# Altium footprint library PcbLib1.PcbLib: 19 footprints (part 2 of 2)
Each footprint in its own frame and in the unit in brackets; x right, y up, seen from the top. Pads: shape width x height; smd on the part's side, far side on the other; paste and mask are expansions set on the pad; w line width, h text height; cw(c..) or ccw(c..) is an arc to the next point about the centre after c.
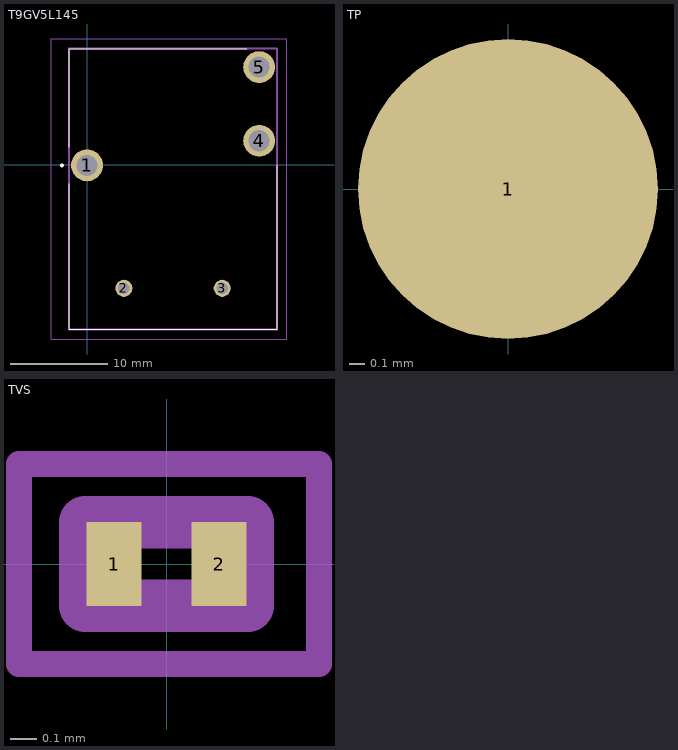
[diagram p1: the footprints below, top view; thin cyan lines are the x and y axes]

## T9GV5L145 [mm]
pads (5):
  round 3.29 hole 2.19: 1(0,-0.06) 4(17.78,2.48) 5(17.78,10.1)
  round 1.77 hole 1.17: 2(3.81,-12.76) 3(13.97,-12.76)
Top Overlay:
  lines w0.1: -1.86,-1.96 -1.86,-17 19.64,-17 19.64,-0.06 ; -1.86,1.84 -1.86,12 16.51,12
  lines w0.2: -2.6,-0.16 ccw(c-2.6,-0.06) -2.6,0.04 ccw(c-2.6,-0.06) -2.6,-0.16
Mechanical 13:
  lines w0.2: -1.86,-17 19.64,-17 19.64,12 -1.86,12 -1.86,-17
Mechanical 15:
  lines w0.1: -3.7,-18 20.64,-18 20.64,13 -3.7,13 -3.7,-18
3D body "c-1558661-3-b-3d.stp": height 15, standoff -3.95, extent -1.81,-17.145 19.59,11.755
3D body: height 2.54, standoff -2.54, extent 6.985,1.397 6.985,1.397

## TP [mm]
pads (1):
  round 2 smd paste-0.508: 1(0,0)

## TVS [mm]
pads (2):
  rect 0.21x0.32 smd: 1(-0.2,0) 2(0.2,0)
Mechanical 13:
  lines w0.2: -0.31,-0.16 0.31,-0.16 0.31,0.16 -0.31,0.16 -0.31,-0.16
Mechanical 15:
  lines w0.1: -0.562,-0.381 0.581,-0.381 0.581,0.381 -0.562,0.381 -0.562,-0.381
3D body "DF2B26M4SL,L3F.stp": height 0.43, standoff 0, extent -0.31,-0.16 0.31,0.16